# EAGLE library part AD8369 (library Mine)
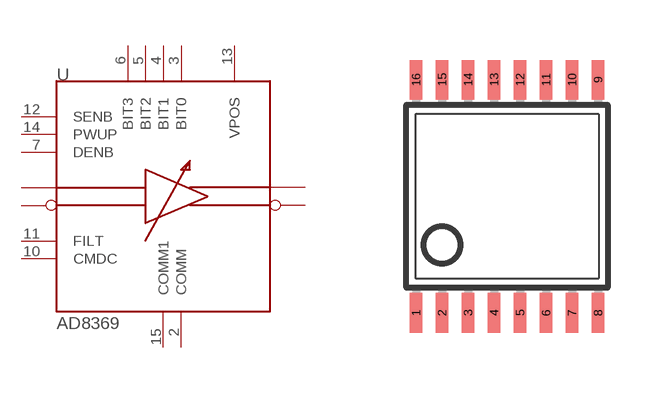
[diagram p48: symbol with the pads of TSSOP16; footprint TSSOP16]

Designator prefix -

## AD8369  [TSSOP16]
1  INLO  in
2  COMM  pwr
3  BIT0  in
4  BIT1  in
5  BIT2  in
6  BIT3  in
7  DENB  in
8  OPLO  out
9  OPHI  out
10  CMDC  pwr
11  FILT
12  SENB  in
13  VPOS  pwr
14  PWUP  in
15  COMM1  pwr
16  INHI  in

## Footprint TSSOP16 (pad centres in mm)
Thin Shrink Small Outline Plastic 16 MAX3223-MAX3243.pdf
smd 0.305 x 0.991: 1 -2.275,-2.918; 2 -1.625,-2.918; 3 -0.975,-2.918; 4 -0.325,-2.918; 5 0.325,-2.918; 6 0.975,-2.918; 7 1.625,-2.918; 8 2.275,-2.918; 9 2.275,2.918; 10 1.625,2.918; 11 0.975,2.918; 12 0.325,2.918; 13 -0.325,2.918; 14 -0.975,2.918; 15 -1.625,2.918; 16 -2.275,2.918